# Altium footprint library OY472KE.PcbLib: 1 footprints
Each footprint in its own frame and in the unit in brackets; x right, y up, seen from the top. Pads: shape width x height; smd on the part's side, far side on the other; paste and mask are expansions set on the pad; w line width, h text height; cw(c..) or ccw(c..) is an arc to the next point about the centre after c.
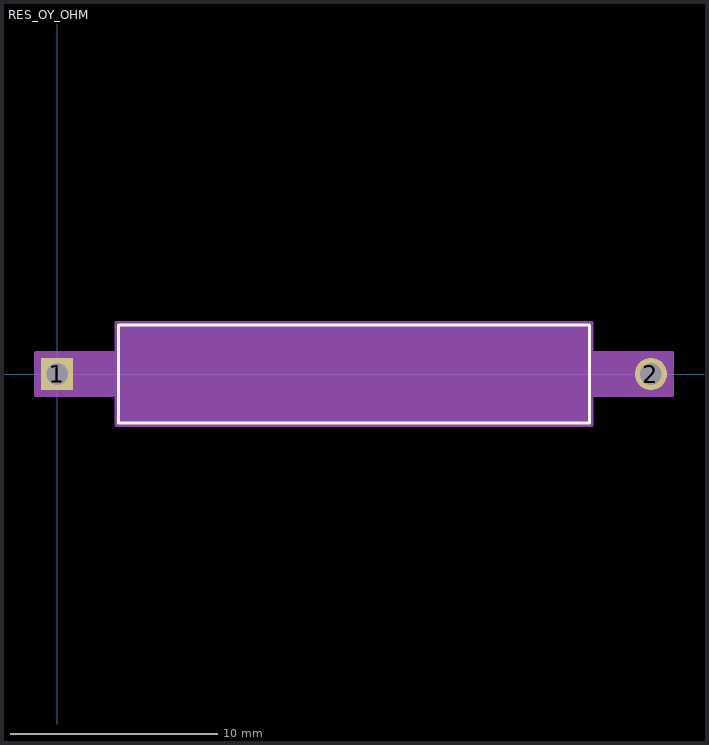
[diagram p0: the footprint, top view; thin cyan lines are the x and y axes]

## RES_OY_OHM [mil]
pads (2):
  rect 61x61 / inner round 60 / far side rect 61x61 hole 41 paste-30.5 mask+0: 1(0,0)
  round 61 / inner round 60 / far side round 61 hole 41 paste-30.5 mask+0: 2(1130,0)
Top Overlay:
  lines w6: 117,-93 1013,-93 1013,93 117,93 117,-93
Mechanical 13:
  lines w1: 0,0 122,0 ; 1008,0 1130,0 ; 122,-88 1008,-88 1008,88 122,88 122,-88
Mechanical 15:
  region: 112,-40.5 -40.5,-40.5 -40.5,40.5 112,40.5 112,98 1018,98 1018,40.5 1170.5,40.5 1170.5,-40.5 1018,-40.5 1018,-98 112,-98
  lines w6: -40.5,-40.5 -40.5,40.5 112,40.5 112,98 1018,98 1018,40.5 1170.5,40.5 1170.5,-40.5 1018,-40.5 1018,-98 112,-98 112,-40.5 -40.5,-40.5
3D body "RES_OY_OHM.step": height 175.99, standoff -110, extent -15.51,-88 1145.51,88